# EAGLE library part 750310059 (library Wurth Electronics Midcom Inc V1-0)
Package Style: Speedy EFD20 Mounting: SMD Pins: 10 pins Bobbin: 070-4290-LF Windings Primary: Aux: Secondary: Best pinouts for production vary per application. Please contact Wurth Electronics Midcom, Inc. for assistance with your custom design. Datasheet: 750310059 <http://www.we-online.com/web/en/index.php/show/media/passive_components_-_custom_magnetics/pdf_doc_files/spec_sheets/7503/750310059.pdf> Website: Wurth Electronics Midcom <http://www.we-online.com/midcom> Contact us Wurth Electronics Midcom, Inc. 121 Airport Dr. Watertown, SD 57201 Phone: (605) 886-4385 Fax: (605) 886-4486 E-Mail: midcom@we-online.com
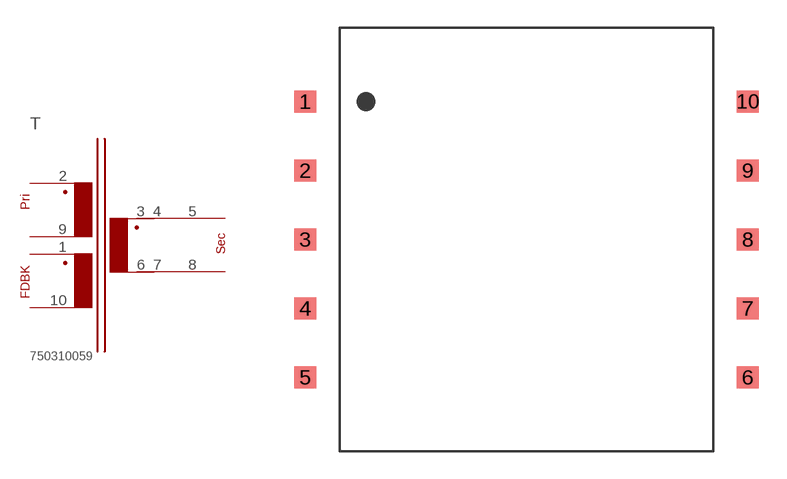
[diagram p51: symbol with the pads of 00SPEEDY_EFD20_SMD_10PIN; footprint 00SPEEDY_EFD20_SMD_10PIN]

Designator prefix T

## 750310059  [00SPEEDY_EFD20_SMD_10PIN]
1  3  pas
2  1  pas
3  5  pas
4  7  pas
5  9  pas
6  6  pas
7  8  pas
8  10  pas
9  2  pas
10  4  pas

## Footprint 00SPEEDY_EFD20_SMD_10PIN (pad centres in mm)
Package Style: EFD20 Mounting: SMD Pins: 10
smd 1.219 x 1.194: 1 -12.052,7.518; 2 -12.052,3.759; 3 -12.052,0; 4 -12.052,-3.759; 5 -12.052,-7.518; 6 12.052,-7.518; 7 12.052,-3.759; 8 12.052,0; 9 12.052,3.759; 10 12.052,7.518